# Altium integrated library Analog Devices Data Converters Analog-to-Digital Converters.IntLib: 2404 symbols (part 197 of 346)
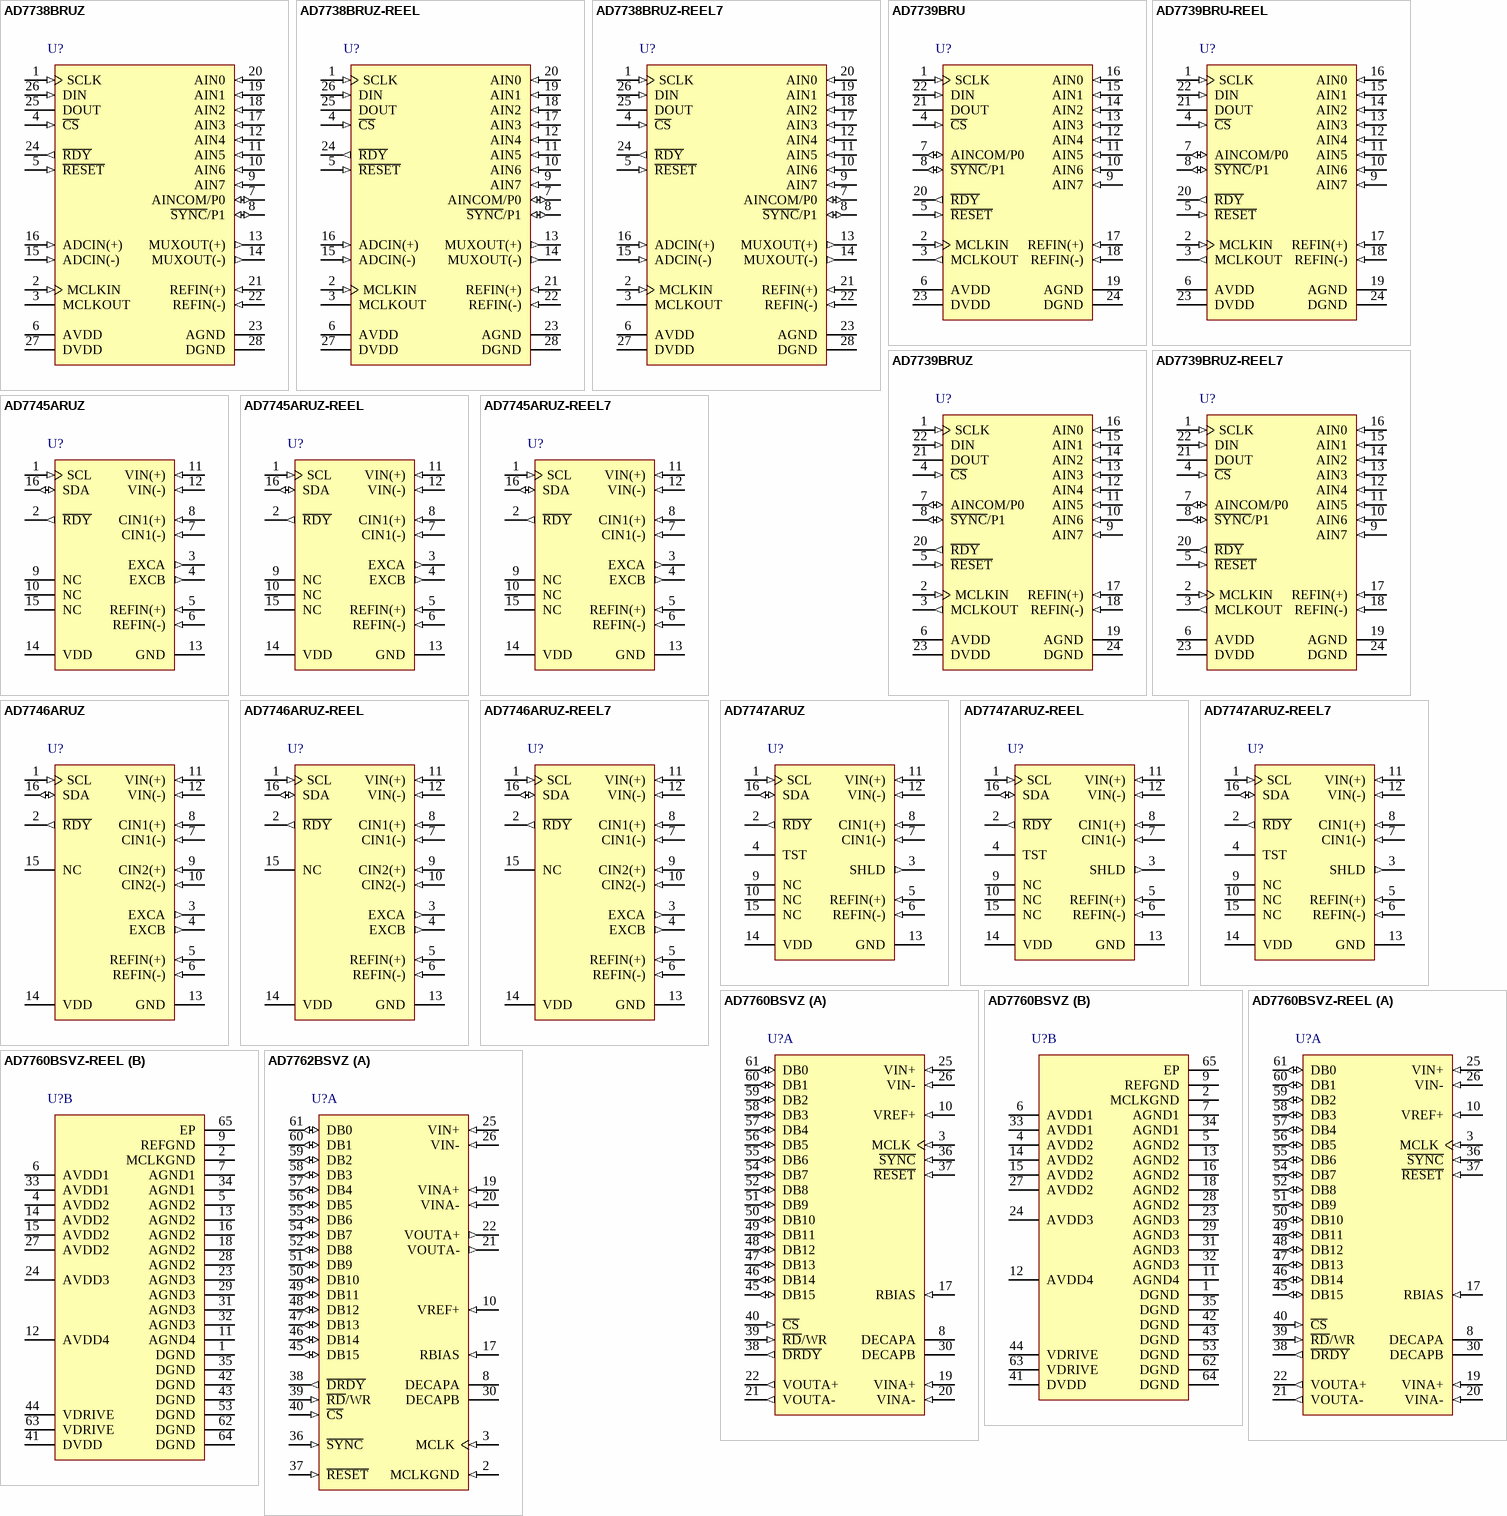
[diagram p261: symbols AD7738BRUZ to AD7762BSVZ]

## AD7739BRU-REEL
designator U?
Octal 24-Bit Sigma-Delta Analog-to-Digital Converter with Serial, SPI Interface, 15.1KSPS, -40 to +105 degC, RU-24, Reel; Generic Part Number: AD7739; Manufacturer: Analog Devices; PartNumber: AD7739BRU-REEL; Resolution (Bits): 24; Channels: 8; Throughput Rate (SPS): 15.1K; Interface: Ser, SPI; DatasheetVersion: Rev.0; PackageVersion: 2002; PackageReference: RU-24; PackageDescription: 24-Lead Thin Shrink Small Outline Package [TSSOP]; Supplier 1: Digi-Key; Supplier Part Number 1: AD7739BRU-REEL-ND; Supplier 2: Mouser; Supplier Part Number 2: 584-AD7739BRU-R; RoHS: N; Packing: Reel; Mounting Technology: Surface Mount; Code_JEDEC: MO-153-AD; ComponentLink1Description: Manufacturer URL; ComponentLink1URL: http://www.analog.com/en/index.html; ComponentLink2Description: Datasheet; ComponentLink2URL: http://www.analog.com/static/imported-files/data_sheets/AD7739.pdf; ComponentLink3Description: Package Specification; ComponentLink3URL: http://www.analog.com/static/imported-files/packages/380523655245964505593671154107510036154RU24.pdf; ComponentLink4Description: Product URL; ComponentLink4URL: http://www.analog.com/en/analog-to-digital-converters/ad-converters/ad7739/products/product.html
footprint RU-24_N (TSOP, 24-Leads, Body 7.8x4.4mm, Pitch 0.65mm, IPC Medium Density)
footprint RU-24_L (TSOP, 24-Leads, Body 7.8x4.4mm, Pitch 0.65mm, IPC High Density)
footprint RU-24_M (TSOP, 24-Leads, Body 7.8x4.4mm, Pitch 0.65mm, IPC Low Density)
pins: 1 SCLK (in) "Serial Clock. Schmitt triggered logic input. An external serial clock is applied to this input to transfer serial data to or from the AD7739.", 2 MCLKIN (in) "Master Clock Signal for the ADC. This can be provided in the form of a crystal/resonator or external clock. A crystal/resonator can be tied across the MCLKIN and MCLKOUT pins.Alternatively, MCLKIN can be driven with a CMOS (See Datasheet)", 3 MCLKOUT (out) "Master Clock Signal for the ADC. When the master clock for the device is a crystal/resonator, the crystal/resonator is connected between MCLKIN and MCLKOUT. If an external clock is applied to the MCLKIN, MCLKOUT provides an (See Datasheet)", 4 ~{CS} (in) "Chip Select. Active low Schmitt triggered logic input with an internal pull-up resistor.With this input hardwired low, the AD7739 can operate in its 3-wire interface mode using SCLK, DIN, and DOUT. C\S\ can be used to select (See Datasheet)", 5 ~{RESET} (in) "Schmitt Triggered Logic Input. Active low input that resets the control logic, interface logic, digital filter, analog modulator, and all on-chip registers of the part to power-on status. Effectively, everything on the part (See Datasheet)", 6 AVDD (power) "Analog Positive Supply Voltage, 5 V to AGND Nominal.", 7 AINCOM/P0 (io) "Analog Inputs Common Terminal/Digital Output. The function of this pin is determined by the P0 DIR bit in the I/O port register; the digital value can be written as the P0 bit in the I/O port register. The digital voltage is (See Datasheet)", 8 ~{SYNC}/P1 (io) "S\Y\N\C\/Digital Input/Digital Output. The pin direction is determined by the P1 DIR bit;the digital value can be read/written as the P1 bit in the I/O port register. When the SYNC bit in the I/O port register is set to 1, (See Datasheet)", 9 AIN7 (in) "Analog Inputs.", 10 AIN6 (in) "Analog Inputs.", 11 AIN5 (in) "Analog Inputs.", 12 AIN4 (in) "Analog Inputs.", 13 AIN3 (in) "Analog Inputs.", 14 AIN2 (in) "Analog Inputs.", 15 AIN1 (in) "Analog Inputs.", 16 AIN0 (in) "Analog Inputs.", 17 REFIN(+) (in) "Positive Terminal of the Differential Reference Input. REFIN(+) voltage potential can lie anywhere between AVDD and AGND. In normal circuit configuration, this pin should be connected to a 2.5 V reference voltage.", 18 REFIN(-) (in) "Negative Terminal of the Differential Reference Input. REFIN(-) voltage potential can lie anywhere between AVDD and AGND. In normal circuit configuration, this pin should be connected to a 0 V reference voltage.", 19 AGND (power) "Ground Reference Point for Analog Circuitry.", 20 ~{RDY} (out) "Logic Output. Used as a status output in both conversion mode and calibration mode. In conversion mode, a falling edge on this output indicates that either any channel or all channels have unread data available, according to (See Datasheet)", 21 DOUT (hiz) "Serial Data Output. Serial data is read from the output shift register on the part. This output shift register can contain information from any AD7739 register, depending on the address bits of the communications register.", 22 DIN (in) "Serial Data Input (Schmitt Triggered). Serial data is written to the input shift register on the part. Data from this input shift register is transferred to any AD7739 register,depending on the address bits of the (See Datasheet)", 23 DVDD (power) "Digital Supply Voltage, 3 V or 5 V Nominal.", 24 DGND (power) "Ground Reference Point for Digital Circuitry."

## AD7739BRUZ
designator U?
Octal 24-Bit Sigma-Delta Analog-to-Digital Converter with Serial, SPI Interface, 15.1KSPS, -40 to +105 degC, RU-24, Pb-Free, Tube; Generic Part Number: AD7739; Manufacturer: Analog Devices; PartNumber: AD7739BRUZ; Resolution (Bits): 24; Channels: 8; Throughput Rate (SPS): 15.1K; Interface: Ser, SPI; DatasheetVersion: Rev.0; PackageVersion: 2002; PackageReference: RU-24; PackageDescription: 24-Lead Thin Shrink Small Outline Package [TSSOP]; Supplier 1: Digi-Key; Supplier Part Number 1: AD7739BRUZ-ND; Supplier 2: Farnell; Supplier Part Number 2: 2305564; Supplier 3: Newark; Supplier Part Number 3: 12M8932; Supplier 4: Mouser; Supplier Part Number 4: 584-AD7739BRUZ; RoHS: Y; Packing: Tube; Mounting Technology: Surface Mount; Code_JEDEC: MO-153-AD; ComponentLink1Description: Manufacturer URL; ComponentLink1URL: http://www.analog.com/en/index.html; ComponentLink2Description: Datasheet; ComponentLink2URL: http://www.analog.com/static/imported-files/data_sheets/AD7739.pdf; ComponentLink3Description: Package Specification; ComponentLink3URL: http://www.analog.com/static/imported-files/packages/380523655245964505593671154107510036154RU24.pdf; ComponentLink4Description: Product URL; ComponentLink4URL: http://www.analog.com/en/analog-to-digital-converters/ad-converters/ad7739/products/product.html
footprint RU-24_N (TSOP, 24-Leads, Body 7.8x4.4mm, Pitch 0.65mm, IPC Medium Density)
footprint RU-24_L (TSOP, 24-Leads, Body 7.8x4.4mm, Pitch 0.65mm, IPC High Density)
footprint RU-24_M (TSOP, 24-Leads, Body 7.8x4.4mm, Pitch 0.65mm, IPC Low Density)
pins: 1 SCLK (in) "Serial Clock. Schmitt triggered logic input. An external serial clock is applied to this input to transfer serial data to or from the AD7739.", 2 MCLKIN (in) "Master Clock Signal for the ADC. This can be provided in the form of a crystal/resonator or external clock. A crystal/resonator can be tied across the MCLKIN and MCLKOUT pins.Alternatively, MCLKIN can be driven with a CMOS (See Datasheet)", 3 MCLKOUT (out) "Master Clock Signal for the ADC. When the master clock for the device is a crystal/resonator, the crystal/resonator is connected between MCLKIN and MCLKOUT. If an external clock is applied to the MCLKIN, MCLKOUT provides an (See Datasheet)", 4 ~{CS} (in) "Chip Select. Active low Schmitt triggered logic input with an internal pull-up resistor.With this input hardwired low, the AD7739 can operate in its 3-wire interface mode using SCLK, DIN, and DOUT. C\S\ can be used to select (See Datasheet)", 5 ~{RESET} (in) "Schmitt Triggered Logic Input. Active low input that resets the control logic, interface logic, digital filter, analog modulator, and all on-chip registers of the part to power-on status. Effectively, everything on the part (See Datasheet)", 6 AVDD (power) "Analog Positive Supply Voltage, 5 V to AGND Nominal.", 7 AINCOM/P0 (io) "Analog Inputs Common Terminal/Digital Output. The function of this pin is determined by the P0 DIR bit in the I/O port register; the digital value can be written as the P0 bit in the I/O port register. The digital voltage is (See Datasheet)", 8 ~{SYNC}/P1 (io) "S\Y\N\C\/Digital Input/Digital Output. The pin direction is determined by the P1 DIR bit;the digital value can be read/written as the P1 bit in the I/O port register. When the SYNC bit in the I/O port register is set to 1, (See Datasheet)", 9 AIN7 (in) "Analog Inputs.", 10 AIN6 (in) "Analog Inputs.", 11 AIN5 (in) "Analog Inputs.", 12 AIN4 (in) "Analog Inputs.", 13 AIN3 (in) "Analog Inputs.", 14 AIN2 (in) "Analog Inputs.", 15 AIN1 (in) "Analog Inputs.", 16 AIN0 (in) "Analog Inputs.", 17 REFIN(+) (in) "Positive Terminal of the Differential Reference Input. REFIN(+) voltage potential can lie anywhere between AVDD and AGND. In normal circuit configuration, this pin should be connected to a 2.5 V reference voltage.", 18 REFIN(-) (in) "Negative Terminal of the Differential Reference Input. REFIN(-) voltage potential can lie anywhere between AVDD and AGND. In normal circuit configuration, this pin should be connected to a 0 V reference voltage.", 19 AGND (power) "Ground Reference Point for Analog Circuitry.", 20 ~{RDY} (out) "Logic Output. Used as a status output in both conversion mode and calibration mode. In conversion mode, a falling edge on this output indicates that either any channel or all channels have unread data available, according to (See Datasheet)", 21 DOUT (hiz) "Serial Data Output. Serial data is read from the output shift register on the part. This output shift register can contain information from any AD7739 register, depending on the address bits of the communications register.", 22 DIN (in) "Serial Data Input (Schmitt Triggered). Serial data is written to the input shift register on the part. Data from this input shift register is transferred to any AD7739 register,depending on the address bits of the (See Datasheet)", 23 DVDD (power) "Digital Supply Voltage, 3 V or 5 V Nominal.", 24 DGND (power) "Ground Reference Point for Digital Circuitry."

## AD7739BRUZ-REEL7
designator U?
Octal 24-Bit Sigma-Delta Analog-to-Digital Converter with Serial, SPI Interface, 15.1KSPS, -40 to +105 degC, RU-24, Pb-Free, Reel; Generic Part Number: AD7739; Manufacturer: Analog Devices; PartNumber: AD7739BRUZ-REEL7; Resolution (Bits): 24; Channels: 8; Throughput Rate (SPS): 15.1K; Interface: Ser, SPI; DatasheetVersion: Rev.0; PackageVersion: 2002; PackageReference: RU-24; PackageDescription: 24-Lead Thin Shrink Small Outline Package [TSSOP]; Supplier 1: Digi-Key; Supplier Part Number 1: AD7739BRUZ-REEL7-ND; Supplier 2: Mouser; Supplier Part Number 2: 584-AD7739BRUZ-R7; RoHS: Y; Packing: Reel; Mounting Technology: Surface Mount; Code_JEDEC: MO-153-AD; ComponentLink1Description: Manufacturer URL; ComponentLink1URL: http://www.analog.com/en/index.html; ComponentLink2Description: Datasheet; ComponentLink2URL: http://www.analog.com/static/imported-files/data_sheets/AD7739.pdf; ComponentLink3Description: Package Specification; ComponentLink3URL: http://www.analog.com/static/imported-files/packages/380523655245964505593671154107510036154RU24.pdf; ComponentLink4Description: Product URL; ComponentLink4URL: http://www.analog.com/en/analog-to-digital-converters/ad-converters/ad7739/products/product.html
footprint RU-24_N (TSOP, 24-Leads, Body 7.8x4.4mm, Pitch 0.65mm, IPC Medium Density)
footprint RU-24_L (TSOP, 24-Leads, Body 7.8x4.4mm, Pitch 0.65mm, IPC High Density)
footprint RU-24_M (TSOP, 24-Leads, Body 7.8x4.4mm, Pitch 0.65mm, IPC Low Density)
pins: 1 SCLK (in) "Serial Clock. Schmitt triggered logic input. An external serial clock is applied to this input to transfer serial data to or from the AD7739.", 2 MCLKIN (in) "Master Clock Signal for the ADC. This can be provided in the form of a crystal/resonator or external clock. A crystal/resonator can be tied across the MCLKIN and MCLKOUT pins.Alternatively, MCLKIN can be driven with a CMOS (See Datasheet)", 3 MCLKOUT (out) "Master Clock Signal for the ADC. When the master clock for the device is a crystal/resonator, the crystal/resonator is connected between MCLKIN and MCLKOUT. If an external clock is applied to the MCLKIN, MCLKOUT provides an (See Datasheet)", 4 ~{CS} (in) "Chip Select. Active low Schmitt triggered logic input with an internal pull-up resistor.With this input hardwired low, the AD7739 can operate in its 3-wire interface mode using SCLK, DIN, and DOUT. C\S\ can be used to select (See Datasheet)", 5 ~{RESET} (in) "Schmitt Triggered Logic Input. Active low input that resets the control logic, interface logic, digital filter, analog modulator, and all on-chip registers of the part to power-on status. Effectively, everything on the part (See Datasheet)", 6 AVDD (power) "Analog Positive Supply Voltage, 5 V to AGND Nominal.", 7 AINCOM/P0 (io) "Analog Inputs Common Terminal/Digital Output. The function of this pin is determined by the P0 DIR bit in the I/O port register; the digital value can be written as the P0 bit in the I/O port register. The digital voltage is (See Datasheet)", 8 ~{SYNC}/P1 (io) "S\Y\N\C\/Digital Input/Digital Output. The pin direction is determined by the P1 DIR bit;the digital value can be read/written as the P1 bit in the I/O port register. When the SYNC bit in the I/O port register is set to 1, (See Datasheet)", 9 AIN7 (in) "Analog Inputs.", 10 AIN6 (in) "Analog Inputs.", 11 AIN5 (in) "Analog Inputs.", 12 AIN4 (in) "Analog Inputs.", 13 AIN3 (in) "Analog Inputs.", 14 AIN2 (in) "Analog Inputs.", 15 AIN1 (in) "Analog Inputs.", 16 AIN0 (in) "Analog Inputs.", 17 REFIN(+) (in) "Positive Terminal of the Differential Reference Input. REFIN(+) voltage potential can lie anywhere between AVDD and AGND. In normal circuit configuration, this pin should be connected to a 2.5 V reference voltage.", 18 REFIN(-) (in) "Negative Terminal of the Differential Reference Input. REFIN(-) voltage potential can lie anywhere between AVDD and AGND. In normal circuit configuration, this pin should be connected to a 0 V reference voltage.", 19 AGND (power) "Ground Reference Point for Analog Circuitry.", 20 ~{RDY} (out) "Logic Output. Used as a status output in both conversion mode and calibration mode. In conversion mode, a falling edge on this output indicates that either any channel or all channels have unread data available, according to (See Datasheet)", 21 DOUT (hiz) "Serial Data Output. Serial data is read from the output shift register on the part. This output shift register can contain information from any AD7739 register, depending on the address bits of the communications register.", 22 DIN (in) "Serial Data Input (Schmitt Triggered). Serial data is written to the input shift register on the part. Data from this input shift register is transferred to any AD7739 register,depending on the address bits of the (See Datasheet)", 23 DVDD (power) "Digital Supply Voltage, 3 V or 5 V Nominal.", 24 DGND (power) "Ground Reference Point for Digital Circuitry."

## AD7745ARUZ
designator U?
Single 24-Bit Capacitance-to-Digital Converter with I2C/Ser 2-Wire, Serial Interface and Temperature Sensor, 90SPS, -40 to +125 degC, RU-16, Pb-Free, Tube; Generic Part Number: AD7745; Manufacturer: Analog Devices; PartNumber: AD7745ARUZ; Resolution (Bits): 24; Channels: 1; Throughput Rate (SPS): 90; DatasheetVersion: Rev.0; PackageVersion: Nov-2002; PackageReference: RU-16; PackageDescription: 16-Lead Thin Shrink Small Outline Package [TSSOP]; Supplier 1: Digi-Key; Supplier Part Number 1: AD7745ARUZ-ND; Supplier 2: Farnell; Supplier Part Number 2: 1078333; Supplier 3: Newark; Supplier Part Number 3: 19M8853; Supplier 4: Mouser; Supplier Part Number 4: 584-AD7745ARUZ; Interface: I2C/Ser 2-Wire, Ser; RoHS: Y; Packing: Tube; Mounting Technology: Surface Mount; Code_JEDEC: MO-153-AB; ComponentLink1Description: Manufacturer URL; ComponentLink1URL: http://www.analog.com/en/index.html; ComponentLink2Description: Datasheet; ComponentLink2URL: http://www.analog.com/static/imported-files/data_sheets/AD7745_7746.pdf; ComponentLink3Description: Package Specification; ComponentLink3URL: http://www.analog.com/static/imported-files/packages/36244347913743854010197452789RU16.pdf; ComponentLink4Description: Product URL; ComponentLink4URL: http://www.analog.com/en/analog-to-digital-converters/ad-converters/ad7745/products/product.html
footprint RU-16_N (TSOP, 16-Leads, Body 5x4.4mm, Pitch 0.65mm, IPC Medium Density)
footprint RU-16_L (TSOP, 16-Leads, Body 5x4.4mm, Pitch 0.65mm, IPC High Density)
footprint RU-16_M (TSOP, 16-Leads, Body 5x4.4mm, Pitch 0.65mm, IPC Low Density)
pins: 1 SCL (in) "Serial Interface Clock Input. Connects to the master clock line. Requires pull-up resistor if not already provided in the system.", 2 ~{RDY} (out) "Logic Output. A falling edge on this output indicates that a conversion on enabled channel(s) has been finished and the new data is available. Alternatively, the status register can be read via the 2-wire serial interface (See Datasheet)", 3 EXCA (out) "CDC Excitation Outputs. The measured capacitance is connected between one of the EXC pins and one of the CIN pins. If not used, these pins should be left as an open circuit.", 4 EXCB (out) "CDC Excitation Outputs. The measured capacitance is connected between one of the EXC pins and one of the CIN pins. If not used, these pins should be left as an open circuit.", 5 REFIN(+) (in) "Differential Voltage Reference Input for the Voltage Channel (ADC). Alternatively, the on-chip internal reference can be used for the voltage channel. These reference input pins are not used for conversion on capacitive (See Datasheet)", 6 REFIN(-) (in) "Differential Voltage Reference Input for the Voltage Channel (ADC). Alternatively, the on-chip internal reference can be used for the voltage channel. These reference input pins are not used for conversion on capacitive (See Datasheet)", 7 CIN1(-) (in) "CDC Negative Capacitive Input in Differential Mode. This pin is internally disconnected in single-ended CDC configuration. If not used, this pin can be left as an open circuit or connected to GND.", 8 CIN1(+) (in) "CDC Capacitive Input (in Single-Ended Mode) or Positive Capacitive Input (in Differential Mode). The measured capacitance is connected between one of the EXC pins and one of the CIN pins. If not used, this pin can be left as (See Datasheet)", 9 NC "Not Connected. This pin should be left as an open circuit.", 10 NC "Not Connected. This pin should be left as an open circuit.", 11 VIN(+) (in) "Differential Voltage Input for the Voltage Channel (ADC). These pins are also used to connect an external temperature sensing diode. If not used, these pins can be left as an open circuit or connected to GND.", 12 VIN(-) (in) "Differential Voltage Input for the Voltage Channel (ADC). These pins are also used to connect an external temperature sensing diode. If not used, these pins can be left as an open circuit or connected to GND.", 13 GND (power) "Ground Pin.", 14 VDD (power) "Power Supply Voltage. This pin should be decoupled to GND, using a low impedance capacitor, for example in combination with a 10 uF tantalum and a 0.1 uF multilayer ceramic.", 15 NC "Not Connected. This pin should be left as an open circuit.", 16 SDA (io) "Serial Interface Bidirectional Data. Connects to the master data line. Requires a pull-up resistor if not provided elsewhere in the system."

## AD7745ARUZ-REEL
designator U?
Single 24-Bit Capacitance-to-Digital Converter with I2C/Ser 2-Wire, Serial Interface and Temperature Sensor, 90SPS, -40 to +125 degC, RU-16, Pb-Free, Reel; Generic Part Number: AD7745; Manufacturer: Analog Devices; PartNumber: AD7745ARUZ-REEL; Resolution (Bits): 24; Channels: 1; Throughput Rate (SPS): 90; DatasheetVersion: Rev.0; PackageVersion: Nov-2002; PackageReference: RU-16; PackageDescription: 16-Lead Thin Shrink Small Outline Package [TSSOP]; Supplier 1: Digi-Key; Supplier Part Number 1: AD7745ARUZ-REEL-ND; Supplier 2: Newark; Supplier Part Number 2: 59K5423; Supplier 3: Mouser; Supplier Part Number 3: 584-AD7745ARUZ-R; Interface: I2C/Ser 2-Wire, Ser; RoHS: Y; Packing: Reel; Mounting Technology: Surface Mount; Code_JEDEC: MO-153-AB; ComponentLink1Description: Manufacturer URL; ComponentLink1URL: http://www.analog.com/en/index.html; ComponentLink2Description: Datasheet; ComponentLink2URL: http://www.analog.com/static/imported-files/data_sheets/AD7745_7746.pdf; ComponentLink3Description: Package Specification; ComponentLink3URL: http://www.analog.com/static/imported-files/packages/36244347913743854010197452789RU16.pdf; ComponentLink4Description: Product URL; ComponentLink4URL: http://www.analog.com/en/analog-to-digital-converters/ad-converters/ad7745/products/product.html
footprint RU-16_N (TSOP, 16-Leads, Body 5x4.4mm, Pitch 0.65mm, IPC Medium Density)
footprint RU-16_L (TSOP, 16-Leads, Body 5x4.4mm, Pitch 0.65mm, IPC High Density)
footprint RU-16_M (TSOP, 16-Leads, Body 5x4.4mm, Pitch 0.65mm, IPC Low Density)
pins: 1 SCL (in) "Serial Interface Clock Input. Connects to the master clock line. Requires pull-up resistor if not already provided in the system.", 2 ~{RDY} (out) "Logic Output. A falling edge on this output indicates that a conversion on enabled channel(s) has been finished and the new data is available. Alternatively, the status register can be read via the 2-wire serial interface (See Datasheet)", 3 EXCA (out) "CDC Excitation Outputs. The measured capacitance is connected between one of the EXC pins and one of the CIN pins. If not used, these pins should be left as an open circuit.", 4 EXCB (out) "CDC Excitation Outputs. The measured capacitance is connected between one of the EXC pins and one of the CIN pins. If not used, these pins should be left as an open circuit.", 5 REFIN(+) (in) "Differential Voltage Reference Input for the Voltage Channel (ADC). Alternatively, the on-chip internal reference can be used for the voltage channel. These reference input pins are not used for conversion on capacitive (See Datasheet)", 6 REFIN(-) (in) "Differential Voltage Reference Input for the Voltage Channel (ADC). Alternatively, the on-chip internal reference can be used for the voltage channel. These reference input pins are not used for conversion on capacitive (See Datasheet)", 7 CIN1(-) (in) "CDC Negative Capacitive Input in Differential Mode. This pin is internally disconnected in single-ended CDC configuration. If not used, this pin can be left as an open circuit or connected to GND.", 8 CIN1(+) (in) "CDC Capacitive Input (in Single-Ended Mode) or Positive Capacitive Input (in Differential Mode). The measured capacitance is connected between one of the EXC pins and one of the CIN pins. If not used, this pin can be left as (See Datasheet)", 9 NC "Not Connected. This pin should be left as an open circuit.", 10 NC "Not Connected. This pin should be left as an open circuit.", 11 VIN(+) (in) "Differential Voltage Input for the Voltage Channel (ADC). These pins are also used to connect an external temperature sensing diode. If not used, these pins can be left as an open circuit or connected to GND.", 12 VIN(-) (in) "Differential Voltage Input for the Voltage Channel (ADC). These pins are also used to connect an external temperature sensing diode. If not used, these pins can be left as an open circuit or connected to GND.", 13 GND (power) "Ground Pin.", 14 VDD (power) "Power Supply Voltage. This pin should be decoupled to GND, using a low impedance capacitor, for example in combination with a 10 uF tantalum and a 0.1 uF multilayer ceramic.", 15 NC "Not Connected. This pin should be left as an open circuit.", 16 SDA (io) "Serial Interface Bidirectional Data. Connects to the master data line. Requires a pull-up resistor if not provided elsewhere in the system."

## AD7745ARUZ-REEL7
designator U?
Single 24-Bit Capacitance-to-Digital Converter with I2C/Ser 2-Wire, Serial Interface and Temperature Sensor, 90SPS, -40 to +125 degC, RU-16, Pb-Free, Reel; Generic Part Number: AD7745; Manufacturer: Analog Devices; PartNumber: AD7745ARUZ-REEL7; Resolution (Bits): 24; Channels: 1; Throughput Rate (SPS): 90; DatasheetVersion: Rev.0; PackageVersion: Nov-2002; PackageReference: RU-16; PackageDescription: 16-Lead Thin Shrink Small Outline Package [TSSOP]; Supplier 1: Digi-Key; Supplier Part Number 1: AD7745ARUZ-REEL7-ND; Supplier 2: Mouser; Supplier Part Number 2: 584-AD7745ARUZ-R7; Interface: I2C/Ser 2-Wire, Ser; RoHS: Y; Packing: Reel; Mounting Technology: Surface Mount; Code_JEDEC: MO-153-AB; ComponentLink1Description: Manufacturer URL; ComponentLink1URL: http://www.analog.com/en/index.html; ComponentLink2Description: Datasheet; ComponentLink2URL: http://www.analog.com/static/imported-files/data_sheets/AD7745_7746.pdf; ComponentLink3Description: Package Specification; ComponentLink3URL: http://www.analog.com/static/imported-files/packages/36244347913743854010197452789RU16.pdf; ComponentLink4Description: Product URL; ComponentLink4URL: http://www.analog.com/en/analog-to-digital-converters/ad-converters/ad7745/products/product.html
footprint RU-16_N (TSOP, 16-Leads, Body 5x4.4mm, Pitch 0.65mm, IPC Medium Density)
footprint RU-16_L (TSOP, 16-Leads, Body 5x4.4mm, Pitch 0.65mm, IPC High Density)
footprint RU-16_M (TSOP, 16-Leads, Body 5x4.4mm, Pitch 0.65mm, IPC Low Density)
pins: 1 SCL (in) "Serial Interface Clock Input. Connects to the master clock line. Requires pull-up resistor if not already provided in the system.", 2 ~{RDY} (out) "Logic Output. A falling edge on this output indicates that a conversion on enabled channel(s) has been finished and the new data is available. Alternatively, the status register can be read via the 2-wire serial interface (See Datasheet)", 3 EXCA (out) "CDC Excitation Outputs. The measured capacitance is connected between one of the EXC pins and one of the CIN pins. If not used, these pins should be left as an open circuit.", 4 EXCB (out) "CDC Excitation Outputs. The measured capacitance is connected between one of the EXC pins and one of the CIN pins. If not used, these pins should be left as an open circuit.", 5 REFIN(+) (in) "Differential Voltage Reference Input for the Voltage Channel (ADC). Alternatively, the on-chip internal reference can be used for the voltage channel. These reference input pins are not used for conversion on capacitive (See Datasheet)", 6 REFIN(-) (in) "Differential Voltage Reference Input for the Voltage Channel (ADC). Alternatively, the on-chip internal reference can be used for the voltage channel. These reference input pins are not used for conversion on capacitive (See Datasheet)", 7 CIN1(-) (in) "CDC Negative Capacitive Input in Differential Mode. This pin is internally disconnected in single-ended CDC configuration. If not used, this pin can be left as an open circuit or connected to GND.", 8 CIN1(+) (in) "CDC Capacitive Input (in Single-Ended Mode) or Positive Capacitive Input (in Differential Mode). The measured capacitance is connected between one of the EXC pins and one of the CIN pins. If not used, this pin can be left as (See Datasheet)", 9 NC "Not Connected. This pin should be left as an open circuit.", 10 NC "Not Connected. This pin should be left as an open circuit.", 11 VIN(+) (in) "Differential Voltage Input for the Voltage Channel (ADC). These pins are also used to connect an external temperature sensing diode. If not used, these pins can be left as an open circuit or connected to GND.", 12 VIN(-) (in) "Differential Voltage Input for the Voltage Channel (ADC). These pins are also used to connect an external temperature sensing diode. If not used, these pins can be left as an open circuit or connected to GND.", 13 GND (power) "Ground Pin.", 14 VDD (power) "Power Supply Voltage. This pin should be decoupled to GND, using a low impedance capacitor, for example in combination with a 10 uF tantalum and a 0.1 uF multilayer ceramic.", 15 NC "Not Connected. This pin should be left as an open circuit.", 16 SDA (io) "Serial Interface Bidirectional Data. Connects to the master data line. Requires a pull-up resistor if not provided elsewhere in the system."

## AD7746ARUZ
designator U?
Dual 24-Bit Capacitance-to-Digital Converter with I2C/Ser 2-Wire, Serial, Interface and Temperature Sensor, 90SPS, -40 to +125 degC, RU-16, Pb-Free, Tube; Generic Part Number: AD7746; Manufacturer: Analog Devices; PartNumber: AD7746ARUZ; Resolution (Bits): 24; Channels: 2; Throughput Rate (SPS): 90; DatasheetVersion: Rev.0; PackageVersion: Nov-2002; PackageReference: RU-16; PackageDescription: 16-Lead Thin Shrink Small Outline Package [TSSOP]; Supplier 1: Digi-Key; Supplier Part Number 1: AD7746ARUZ-ND; Supplier 2: Farnell; Supplier Part Number 2: 1078332; Supplier 3: Newark; Supplier Part Number 3: 19M0895; Supplier 4: Mouser; Supplier Part Number 4: 584-AD7746ARUZ; Interface: I2C/Ser 2-Wire, Ser; RoHS: Y; Packing: Tube; Mounting Technology: Surface Mount; Code_JEDEC: MO-153-AB; ComponentLink1Description: Manufacturer URL; ComponentLink1URL: http://www.analog.com/en/index.html; ComponentLink2Description: Datasheet; ComponentLink2URL: http://www.analog.com/static/imported-files/data_sheets/AD7745_7746.pdf; ComponentLink3Description: Package Specification; ComponentLink3URL: http://www.analog.com/static/imported-files/packages/36244347913743854010197452789RU16.pdf; ComponentLink4Description: Product URL; ComponentLink4URL: http://www.analog.com/en/analog-to-digital-converters/ad-converters/ad7746/products/product.html
footprint RU-16_N (TSOP, 16-Leads, Body 5x4.4mm, Pitch 0.65mm, IPC Medium Density)
footprint RU-16_L (TSOP, 16-Leads, Body 5x4.4mm, Pitch 0.65mm, IPC High Density)
footprint RU-16_M (TSOP, 16-Leads, Body 5x4.4mm, Pitch 0.65mm, IPC Low Density)
pins: 1 SCL (in) "Serial Interface Clock Input. Connects to the master clock line. Requires pull-up resistor if not already provided in the system.", 2 ~{RDY} (out) "Logic Output. A falling edge on this output indicates that a conversion on enabled channel(s) has been finished and the new data is available. Alternatively, the status register can be read via the 2-wire serial interface (See Datasheet)", 3 EXCA (out) "CDC Excitation Outputs. The measured capacitance is connected between one of the EXC pins and one of the CIN pins. If not used, these pins should be left as an open circuit.", 4 EXCB (out) "CDC Excitation Outputs. The measured capacitance is connected between one of the EXC pins and one of the CIN pins. If not used, these pins should be left as an open circuit.", 5 REFIN(+) (in) "Differential Voltage Reference Input for the Voltage Channel (ADC). Alternatively, the on-chip internal reference can be used for the voltage channel. These reference input pins are not used for conversion on capacitive (See Datasheet)", 6 REFIN(-) (in) "Differential Voltage Reference Input for the Voltage Channel (ADC). Alternatively, the on-chip internal reference can be used for the voltage channel. These reference input pins are not used for conversion on capacitive (See Datasheet)", 7 CIN1(-) (in) "CDC Negative Capacitive Input in Differential Mode. This pin is internally disconnected in single-ended CDC configuration. If not used, this pin can be left as an open circuit or connected to GND.", 8 CIN1(+) (in) "CDC Capacitive Input (in Single-Ended Mode) or Positive Capacitive Input (in Differential Mode). The measured capacitance is connected between one of the EXC pins and one of the CIN pins. If not used, this pin can be left as (See Datasheet)", 9 CIN2(+) (in) "CDC Second Capacitive Input (in Single-Ended Mode) or Positive Capacitive Input (in Differential Mode). If not used, this pin can be left open circuit or connected to GND.", 10 CIN2(-) (in) "CDC Negative Capacitive Input in Differential Mode. This pin is internally disconnected in a single-ended CDC configuration. If not used, this pin can be left as an open circuit or connected to GND.", 11 VIN(+) (in) "Differential Voltage Input for the Voltage Channel (ADC). These pins are also used to connect an external temperature sensing diode. If not used, these pins can be left as an open circuit or connected to GND.", 12 VIN(-) (in) "Differential Voltage Input for the Voltage Channel (ADC). These pins are also used to connect an external temperature sensing diode. If not used, these pins can be left as an open circuit or connected to GND.", 13 GND (power) "Ground Pin.", 14 VDD (power) "Power Supply Voltage. This pin should be decoupled to GND, using a low impedance capacitor, for example in combination with a 10 uF tantalum and a 0.1 uF multilayer ceramic.", 15 NC "Not Connected. This pin should be left as an open circuit.", 16 SDA (io) "Serial Interface Bidirectional Data. Connects to the master data line. Requires a pull-up resistor if not provided elsewhere in the system."

## AD7746ARUZ-REEL
designator U?
Dual 24-Bit Capacitance-to-Digital Converter with I2C/Ser 2-Wire, Serial Interface and Temperature Sensor, 90SPS, -40 to +125 degC, RU-16, Pb-Free, Reel; Generic Part Number: AD7746; Manufacturer: Analog Devices; PartNumber: AD7746ARUZ-REEL; Resolution (Bits): 24; Channels: 2; Throughput Rate (SPS): 90; DatasheetVersion: Rev.0; PackageVersion: Nov-2002; PackageReference: RU-16; PackageDescription: 16-Lead Thin Shrink Small Outline Package [TSSOP]; Supplier 1: Digi-Key; Supplier Part Number 1: AD7746ARUZ-REEL-ND; Supplier 2: Mouser; Supplier Part Number 2: 584-AD7746ARUZ-R; Interface: I2C/Ser 2-Wire, Ser; RoHS: Y; Packing: Reel; Mounting Technology: Surface Mount; Code_JEDEC: MO-153-AB; ComponentLink1Description: Manufacturer URL; ComponentLink1URL: http://www.analog.com/en/index.html; ComponentLink2Description: Datasheet; ComponentLink2URL: http://www.analog.com/static/imported-files/data_sheets/AD7745_7746.pdf; ComponentLink3Description: Package Specification; ComponentLink3URL: http://www.analog.com/static/imported-files/packages/36244347913743854010197452789RU16.pdf; ComponentLink4Description: Product URL; ComponentLink4URL: http://www.analog.com/en/analog-to-digital-converters/ad-converters/ad7746/products/product.html
footprint RU-16_N (TSOP, 16-Leads, Body 5x4.4mm, Pitch 0.65mm, IPC Medium Density)
footprint RU-16_L (TSOP, 16-Leads, Body 5x4.4mm, Pitch 0.65mm, IPC High Density)
footprint RU-16_M (TSOP, 16-Leads, Body 5x4.4mm, Pitch 0.65mm, IPC Low Density)
pins: 1 SCL (in) "Serial Interface Clock Input. Connects to the master clock line. Requires pull-up resistor if not already provided in the system.", 2 ~{RDY} (out) "Logic Output. A falling edge on this output indicates that a conversion on enabled channel(s) has been finished and the new data is available. Alternatively, the status register can be read via the 2-wire serial interface (See Datasheet)", 3 EXCA (out) "CDC Excitation Outputs. The measured capacitance is connected between one of the EXC pins and one of the CIN pins. If not used, these pins should be left as an open circuit.", 4 EXCB (out) "CDC Excitation Outputs. The measured capacitance is connected between one of the EXC pins and one of the CIN pins. If not used, these pins should be left as an open circuit.", 5 REFIN(+) (in) "Differential Voltage Reference Input for the Voltage Channel (ADC). Alternatively, the on-chip internal reference can be used for the voltage channel. These reference input pins are not used for conversion on capacitive (See Datasheet)", 6 REFIN(-) (in) "Differential Voltage Reference Input for the Voltage Channel (ADC). Alternatively, the on-chip internal reference can be used for the voltage channel. These reference input pins are not used for conversion on capacitive (See Datasheet)", 7 CIN1(-) (in) "CDC Negative Capacitive Input in Differential Mode. This pin is internally disconnected in single-ended CDC configuration. If not used, this pin can be left as an open circuit or connected to GND.", 8 CIN1(+) (in) "CDC Capacitive Input (in Single-Ended Mode) or Positive Capacitive Input (in Differential Mode). The measured capacitance is connected between one of the EXC pins and one of the CIN pins. If not used, this pin can be left as (See Datasheet)", 9 CIN2(+) (in) "CDC Second Capacitive Input (in Single-Ended Mode) or Positive Capacitive Input (in Differential Mode). If not used, this pin can be left open circuit or connected to GND.", 10 CIN2(-) (in) "CDC Negative Capacitive Input in Differential Mode. This pin is internally disconnected in a single-ended CDC configuration. If not used, this pin can be left as an open circuit or connected to GND.", 11 VIN(+) (in) "Differential Voltage Input for the Voltage Channel (ADC). These pins are also used to connect an external temperature sensing diode. If not used, these pins can be left as an open circuit or connected to GND.", 12 VIN(-) (in) "Differential Voltage Input for the Voltage Channel (ADC). These pins are also used to connect an external temperature sensing diode. If not used, these pins can be left as an open circuit or connected to GND.", 13 GND (power) "Ground Pin.", 14 VDD (power) "Power Supply Voltage. This pin should be decoupled to GND, using a low impedance capacitor, for example in combination with a 10 uF tantalum and a 0.1 uF multilayer ceramic.", 15 NC "Not Connected. This pin should be left as an open circuit.", 16 SDA (io) "Serial Interface Bidirectional Data. Connects to the master data line. Requires a pull-up resistor if not provided elsewhere in the system."

## AD7746ARUZ-REEL7
designator U?
Dual 24-Bit Capacitance-to-Digital Converter with I2C/Ser 2-Wire, Serial Interface and Temperature Sensor, 90SPS, -40 to +125 degC, RU-16, Pb-Free, Reel; Generic Part Number: AD7746; Manufacturer: Analog Devices; PartNumber: AD7746ARUZ-REEL7; Resolution (Bits): 24; Channels: 2; Throughput Rate (SPS): 90; DatasheetVersion: Rev.0; PackageVersion: Nov-2002; PackageReference: RU-16; PackageDescription: 16-Lead Thin Shrink Small Outline Package [TSSOP]; Supplier 1: Digi-Key; Supplier Part Number 1: AD7746ARUZ-REEL7-ND; Supplier 2: Mouser; Supplier Part Number 2: 584-AD7746ARUZ-R7; Interface: I2C/Ser 2-Wire, Ser; RoHS: Y; Packing: Reel; Mounting Technology: Surface Mount; Code_JEDEC: MO-153-AB; ComponentLink1Description: Manufacturer URL; ComponentLink1URL: http://www.analog.com/en/index.html; ComponentLink2Description: Datasheet; ComponentLink2URL: http://www.analog.com/static/imported-files/data_sheets/AD7745_7746.pdf; ComponentLink3Description: Package Specification; ComponentLink3URL: http://www.analog.com/static/imported-files/packages/36244347913743854010197452789RU16.pdf; ComponentLink4Description: Product URL; ComponentLink4URL: http://www.analog.com/en/analog-to-digital-converters/ad-converters/ad7746/products/product.html
footprint RU-16_N (TSOP, 16-Leads, Body 5x4.4mm, Pitch 0.65mm, IPC Medium Density)
footprint RU-16_L (TSOP, 16-Leads, Body 5x4.4mm, Pitch 0.65mm, IPC High Density)
footprint RU-16_M (TSOP, 16-Leads, Body 5x4.4mm, Pitch 0.65mm, IPC Low Density)
pins: 1 SCL (in) "Serial Interface Clock Input. Connects to the master clock line. Requires pull-up resistor if not already provided in the system.", 2 ~{RDY} (out) "Logic Output. A falling edge on this output indicates that a conversion on enabled channel(s) has been finished and the new data is available. Alternatively, the status register can be read via the 2-wire serial interface (See Datasheet)", 3 EXCA (out) "CDC Excitation Outputs. The measured capacitance is connected between one of the EXC pins and one of the CIN pins. If not used, these pins should be left as an open circuit.", 4 EXCB (out) "CDC Excitation Outputs. The measured capacitance is connected between one of the EXC pins and one of the CIN pins. If not used, these pins should be left as an open circuit.", 5 REFIN(+) (in) "Differential Voltage Reference Input for the Voltage Channel (ADC). Alternatively, the on-chip internal reference can be used for the voltage channel. These reference input pins are not used for conversion on capacitive (See Datasheet)", 6 REFIN(-) (in) "Differential Voltage Reference Input for the Voltage Channel (ADC). Alternatively, the on-chip internal reference can be used for the voltage channel. These reference input pins are not used for conversion on capacitive (See Datasheet)", 7 CIN1(-) (in) "CDC Negative Capacitive Input in Differential Mode. This pin is internally disconnected in single-ended CDC configuration. If not used, this pin can be left as an open circuit or connected to GND.", 8 CIN1(+) (in) "CDC Capacitive Input (in Single-Ended Mode) or Positive Capacitive Input (in Differential Mode). The measured capacitance is connected between one of the EXC pins and one of the CIN pins. If not used, this pin can be left as (See Datasheet)", 9 CIN2(+) (in) "CDC Second Capacitive Input (in Single-Ended Mode) or Positive Capacitive Input (in Differential Mode). If not used, this pin can be left open circuit or connected to GND.", 10 CIN2(-) (in) "CDC Negative Capacitive Input in Differential Mode. This pin is internally disconnected in a single-ended CDC configuration. If not used, this pin can be left as an open circuit or connected to GND.", 11 VIN(+) (in) "Differential Voltage Input for the Voltage Channel (ADC). These pins are also used to connect an external temperature sensing diode. If not used, these pins can be left as an open circuit or connected to GND.", 12 VIN(-) (in) "Differential Voltage Input for the Voltage Channel (ADC). These pins are also used to connect an external temperature sensing diode. If not used, these pins can be left as an open circuit or connected to GND.", 13 GND (power) "Ground Pin.", 14 VDD (power) "Power Supply Voltage. This pin should be decoupled to GND, using a low impedance capacitor, for example in combination with a 10 uF tantalum and a 0.1 uF multilayer ceramic.", 15 NC "Not Connected. This pin should be left as an open circuit.", 16 SDA (io) "Serial Interface Bidirectional Data. Connects to the master data line. Requires a pull-up resistor if not provided elsewhere in the system."

## AD7747ARUZ
designator U?
Single 24-Bit Capacitance-to-Digital Converter with I2C/Ser 2-Wire, Serial Interface and Temperature Sensor, 45.5SPS, -40 to +125 degC, RU-16, Pb-Free, Tube; Generic Part Number: AD7747; Manufacturer: Analog Devices; PartNumber: AD7747ARUZ; Resolution (Bits): 24; Channels: 1; Throughput Rate (SPS): 45.5; DatasheetVersion: Rev.0; PackageVersion: Nov-2002; PackageReference: RU-16; PackageDescription: 16-Lead Thin Shrink Small Outline Package [TSSOP]; Supplier 1: Digi-Key; Supplier Part Number 1: AD7747ARUZ-ND; Supplier 2: Farnell; Supplier Part Number 2: 1498726; Supplier 3: Newark; Supplier Part Number 3: 34M5039; Supplier 4: Mouser; Supplier Part Number 4: 584-AD7747ARUZ; Interface: I2C/Ser 2-Wire, Ser; RoHS: Y; Packing: Tube; Mounting Technology: Surface Mount; Code_JEDEC: MO-153-AB; ComponentLink1Description: Manufacturer URL; ComponentLink1URL: http://www.analog.com/en/index.html; ComponentLink2Description: Datasheet; ComponentLink2URL: http://www.analog.com/static/imported-files/data_sheets/AD7747.pdf; ComponentLink3Description: Package Specification; ComponentLink3URL: http://www.analog.com/static/imported-files/packages/36244347913743854010197452789RU16.pdf; ComponentLink4Description: Product URL; ComponentLink4URL: http://www.analog.com/en/analog-to-digital-converters/ad-converters/ad7747/products/product.html
footprint RU-16_N (TSOP, 16-Leads, Body 5x4.4mm, Pitch 0.65mm, IPC Medium Density)
footprint RU-16_L (TSOP, 16-Leads, Body 5x4.4mm, Pitch 0.65mm, IPC High Density)
footprint RU-16_M (TSOP, 16-Leads, Body 5x4.4mm, Pitch 0.65mm, IPC Low Density)
pins: 1 SCL (in) "Serial Interface Clock Input. Connects to the master clock line. Requires pull-up resistor if not already provided in the system.", 2 ~{RDY} (out) "Logic Output. A falling edge on this output indicates that a conversion on enabled channel(s) has been finished and the new data is available. Alternatively, the status register can be read via the 2-wire serial interface (See Datasheet)", 3 SHLD (out) "Capacitive Input Active AC Shielding. To eliminate the CIN parasitic capacitance to ground, the SHLD signal  can be used for shielding the connection between the sensor and CIN. If not used, this pin should be left as an (See Datasheet)", 4 TST "This pin must be left as an open circuit for proper operation.", 5 REFIN(+) (in) "Differential Voltage Reference Input for the Voltage Channel (ADC). Alternatively, the on-chip internal reference can be used for the voltage channel. These reference input pins are not used for conversion on capacitive (See Datasheet)", 6 REFIN(-) (in) "Differential Voltage Reference Input for the Voltage Channel (ADC). Alternatively, the on-chip internal reference can be used for the voltage channel. These reference input pins are not used for conversion on capacitive (See Datasheet)", 7 CIN1(-) (in) "CDC Negative Capacitive Input. The measured capacitance is connected between the CIN1(-) pin and GND. If not used, this pin should be left as an open circuit.", 8 CIN1(+) (in) "CDC Positive Capacitive Input. The measured capacitance is connected between the CIN1(+) pin and GND. If not used, this pin should be left as an open circuit.", 9 NC "Not Connected. These pins should be left as an open circuit.", 10 NC "Not Connected. These pins should be left as an open circuit.", 11 VIN(+) (in) "Differential Voltage Input for the Voltage Channel (ADC). These pins are also used to connect an external temperature sensing diode. If not used, these pins can be left as an open circuit or connected to GND.", 12 VIN(-) (in) "Differential Voltage Input for the Voltage Channel (ADC). These pins are also used to connect an external temperature sensing diode. If not used, these pins can be left as an open circuit or connected to GND.", 13 GND (power) "Ground Pin.", 14 VDD (power) "Power Supply Voltage. This pin should be decoupled to GND, using a low impedance capacitor, for example in combination with a 10 uF tantalum and a 0.1 uF multilayer ceramic.", 15 NC "Not Connected. This pin should be left as an open circuit.", 16 SDA (io) "Serial Interface Bidirectional Data. Connects to the master data line. Requires a pull-up resistor if not provided elsewhere in the system."